# EAGLE library part PINHEAD_1X6_1.27 (library hsk_2012)
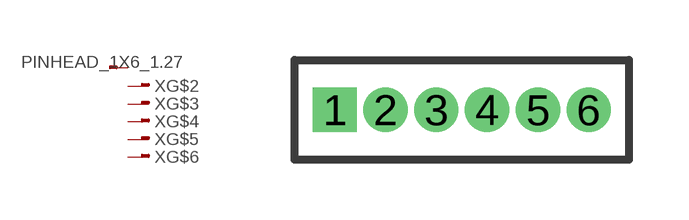
[diagram p40: symbol with the pads of 1X06M; footprint 1X06M]

Designator prefix X; gates G$1=SINGLE_PAD G$2=CON G$3=CON G$4=CON G$5=CON G$6=CON

## PINHEAD_1X6_1.27_1  [1X06M]
1  G$1:1
2  G$2:CON
3  G$3:CON
4  G$4:CON
5  G$5:CON
6  G$6:CON

## Footprint 1X06M (pad centres in mm)
drill 0.6 pad 1.05 square: 1 -3.175,0
drill 0.6 pad 1.05: 2 -1.905,0; 3 -0.635,0; 4 0.635,0; 5 1.905,0; 6 3.175,0